# Altium footprint library CHIPS.PcbLib: 14 footprints
Each footprint in its own frame and in the unit in brackets; x right, y up, seen from the top. Pads: shape width x height; smd on the part's side, far side on the other; paste and mask are expansions set on the pad; w line width, h text height; cw(c..) or ccw(c..) is an arc to the next point about the centre after c.
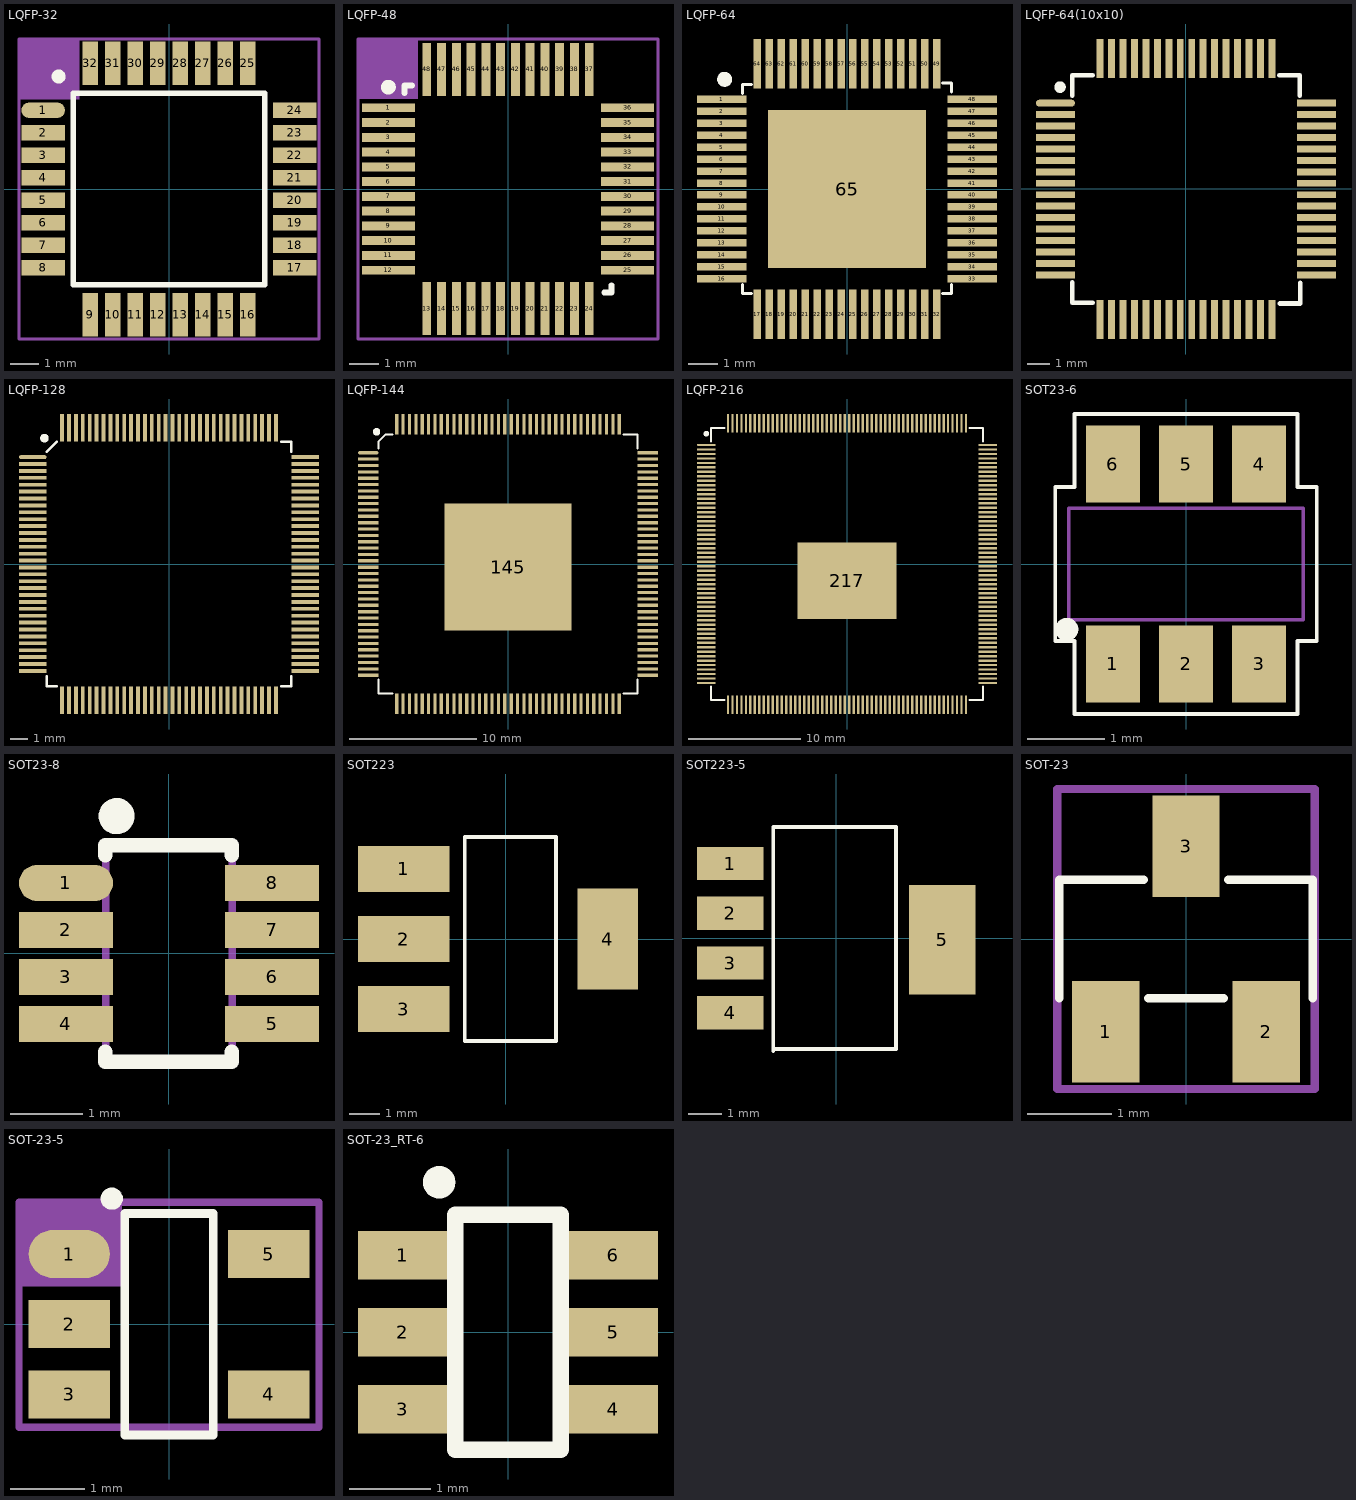
[diagram p0: the footprints below, top view; thin cyan lines are the x and y axes]

## LQFP-32 [mm] "TQFP, 32-Leads, Body 9,0x9,0mm (max), Pitch 0,80mm, IPC Medium Density"
height 1.6
pads (32):
  oval 1.55x0.55 smd paste-0.06 mask+0.05: 1(-4.475,2.8)
  rect 1.55x0.55 smd paste-0.06 mask+0.05: 2(-4.475,2) 3(-4.475,1.2) 4(-4.475,0.4) 5(-4.475,-0.4) 6(-4.475,-1.2) 7(-4.475,-2) 8(-4.475,-2.8) 17(4.475,-2.8) 18(4.475,-2) 19(4.475,-1.2) 20(4.475,-0.4) 21(4.475,0.4) 22(4.475,1.2) 23(4.475,2) 24(4.475,2.8)
  rect 0.55x1.55 smd paste-0.06 mask+0.05: 9(-2.8,-4.475) 10(-2,-4.475) 11(-1.2,-4.475) 12(-0.4,-4.475) 13(0.4,-4.475) 14(1.2,-4.475) 15(2,-4.475) 16(2.8,-4.475) 25(2.8,4.475) 26(2,4.475) 27(1.2,4.475) 28(0.4,4.475) 29(-0.4,4.475) 30(-1.2,4.475) 31(-2,4.475) 32(-2.8,4.475)
Top Overlay:
  circle w0.25: c-3.925,4 r0.125
  lines w0.2: -3.4,-3.4 -3.4,3.4 3.4,3.4 3.4,-3.4 -3.4,-3.4
Mechanical 29:
  rectangle: -5.334,3.175 -3.175,5.334
  lines w0.1: -5.334,-5.334 5.334,-5.334 5.334,5.334 -5.334,5.334 -5.334,-5.334
  text ".Designator" at -2.921,-0.508 h1.52
3D body "User Library-sot358-1.STEP": height 1.43, standoff -0.03, extent -4.55,-4.539 4.529,4.539

## LQFP-48 [mm] "TSQFP, 48-Leads, Body 9,3x9,3mm (max), Pitch 0,50mm, IPC Medium Density"
height 1.4
pads (48):
  rect 1.8x0.3 smd paste-0.04 mask+0.05: 1(-4.05,2.75) 2(-4.05,2.25) 3(-4.05,1.75) 4(-4.05,1.25) 5(-4.05,0.75) 6(-4.05,0.25) 7(-4.05,-0.25) 8(-4.05,-0.75) 9(-4.05,-1.25) 10(-4.05,-1.75) 11(-4.05,-2.25) 12(-4.05,-2.75) 25(4.05,-2.75) 26(4.05,-2.25) 27(4.05,-1.75) 28(4.05,-1.25) 29(4.05,-0.75) 30(4.05,-0.25) 31(4.05,0.25) 32(4.05,0.75) 33(4.05,1.25) 34(4.05,1.75) 35(4.05,2.25) 36(4.05,2.75)
  rect 0.3x1.8 smd paste-0.04 mask+0.05: 13(-2.75,-4.05) 14(-2.25,-4.05) 15(-1.75,-4.05) 16(-1.25,-4.05) 17(-0.75,-4.05) 18(-0.25,-4.05) 19(0.25,-4.05) 20(0.75,-4.05) 21(1.25,-4.05) 22(1.75,-4.05) 23(2.25,-4.05) 24(2.75,-4.05) 37(2.75,4.05) 38(2.25,4.05) 39(1.75,4.05) 40(1.25,4.05) 41(0.75,4.05) 42(0.25,4.05) 43(-0.25,4.05) 44(-0.75,4.05) 45(-1.25,4.05) 46(-1.75,4.05) 47(-2.25,4.05) 48(-2.75,4.05)
Top Overlay:
  circle w0.25: c-4.05,3.45 r0.125
  lines w0.2: -3.5,3.25 -3.5,3.5 -3.25,3.5 ; 3.26,-3.5 3.5,-3.5 3.5,-3.26
Mechanical 29:
  rectangle: -5.08,3.048 -3.048,5.08
  lines w0.1: -5.08,-5.08 5.08,-5.08 5.08,5.08 -4.064,5.08 -5.08,5.08 -5.08,-5.08
  text ".Designator" at -2.413,-0.635 h1.52
3D body "SW3dPS-LQFP48.STEP": height 1.5, standoff 0, extent -4.5,-4.5 4.5,4.5

## LQFP-64 [mm] "TSQFP, 64-Leads, Body 9,0x9,0mm (max), Pitch 0,40mm, IPC Medium Density"
height 1.2
pads (65):
  rect 1.65x0.25 smd paste-0.05 mask+0.02: 1(-4.2,3) 2(-4.2,2.6) 3(-4.2,2.2) 4(-4.2,1.8) 5(-4.2,1.4) 6(-4.2,1) 7(-4.2,0.6) 8(-4.2,0.2) 9(-4.2,-0.2) 10(-4.2,-0.6) 11(-4.2,-1) 12(-4.2,-1.4) 13(-4.2,-1.8) 14(-4.2,-2.2) 15(-4.2,-2.6) 16(-4.2,-3) 33(4.2,-3) 34(4.2,-2.6) 35(4.2,-2.2) 36(4.2,-1.8) 37(4.2,-1.4) 38(4.2,-1) 39(4.2,-0.6) 40(4.2,-0.2) 41(4.2,0.2) 42(4.2,0.6) 43(4.2,1) 44(4.2,1.4) 45(4.2,1.8) 46(4.2,2.2) 47(4.2,2.6) 48(4.2,3)
  rect 0.25x1.65 smd paste-0.05 mask+0.02: 17(-3,-4.2) 18(-2.6,-4.2) 19(-2.2,-4.2) 20(-1.8,-4.2) 21(-1.4,-4.2) 22(-1,-4.2) 23(-0.6,-4.2) 24(-0.2,-4.2) 25(0.2,-4.2) 26(0.6,-4.2) 27(1,-4.2) 28(1.4,-4.2) 29(1.8,-4.2) 30(2.2,-4.2) 31(2.6,-4.2) 32(3,-4.2) 49(3,4.2) 50(2.6,4.2) 51(2.2,4.2) 52(1.8,4.2) 53(1.4,4.2) 54(1,4.2) 55(0.6,4.2) 56(0.2,4.2) 57(-0.2,4.2) 58(-0.6,4.2) 59(-1,4.2) 60(-1.4,4.2) 61(-1.8,4.2) 62(-2.2,4.2) 63(-2.6,4.2) 64(-3,4.2)
  rect 5.3x5.3 smd paste-1: 65(0,0)
Top Overlay:
  circle w0.25: c-4.1,3.675 r0.125
  lines w0.1: -3.5,-3.2 -3.5,-3.5 -3.2,-3.5 ; -3.5,3.2 -3.5,3.5 -3.2,3.5 ; 3.2,-3.5 3.5,-3.5 3.5,-3.2 ; 3.2,3.55 3.5,3.55 3.5,3.25
3D body "User Library-IPC QFP-full.STEP": height 1.75, standoff 0, extent -4.51,-4.421 4.51,4.6

## LQFP-64(10x10) [mm]
height 1.6
pads (64):
  oval 1.7x0.3 smd paste-0.04 mask+0.03: 1(-5.7,3.75)
  rect 1.7x0.3 smd paste-0.04 mask+0.03: 2(-5.7,3.25) 3(-5.7,2.75) 4(-5.7,2.25) 5(-5.7,1.75) 6(-5.7,1.25) 7(-5.7,0.75) 8(-5.7,0.25) 9(-5.7,-0.25) 10(-5.7,-0.75) 11(-5.7,-1.25) 12(-5.7,-1.75) 13(-5.7,-2.25) 14(-5.7,-2.75) 15(-5.7,-3.25) 16(-5.7,-3.75) 33(5.7,-3.75) 34(5.7,-3.25) 35(5.7,-2.75) 36(5.7,-2.25) 37(5.7,-1.75) 38(5.7,-1.25) 39(5.7,-0.75) 40(5.7,-0.25) 41(5.7,0.25) 42(5.7,0.75) 43(5.7,1.25) 44(5.7,1.75) 45(5.7,2.25) 46(5.7,2.75) 47(5.7,3.25) 48(5.7,3.75)
  rect 0.3x1.7 smd paste-0.04 mask+0.03: 17(-3.75,-5.7) 18(-3.25,-5.7) 19(-2.75,-5.7) 20(-2.25,-5.7) 21(-1.75,-5.7) 22(-1.25,-5.7) 23(-0.75,-5.7) 24(-0.25,-5.7) 25(0.25,-5.7) 26(0.75,-5.7) 27(1.25,-5.7) 28(1.75,-5.7) 29(2.25,-5.7) 30(2.75,-5.7) 31(3.25,-5.7) 32(3.75,-5.7) 49(3.75,5.7) 50(3.25,5.7) 51(2.75,5.7) 52(2.25,5.7) 53(1.75,5.7) 54(1.25,5.7) 55(0.75,5.7) 56(0.25,5.7) 57(-0.25,5.7) 58(-0.75,5.7) 59(-1.25,5.7) 60(-1.75,5.7) 61(-2.25,5.7) 62(-2.75,5.7) 63(-3.25,5.7) 64(-3.75,5.7)
Top Overlay:
  circle w0.25: c-5.5,4.45 r0.125
  lines w0.2: -4.975,-4.075 -4.975,-4.975 -4.075,-4.975 ; -4.975,4.075 -4.975,4.975 -4.075,4.975 ; 4.075,4.975 4.975,4.975 4.975,4.075 ; 4.09,-5 4.99,-5 4.99,-4.1
3D body "User Library-lqpf64.step": height 1.47, standoff -0.01, extent -6,-6 6,6

## LQFP-128 [mm] "TSQFP, 128-Leads, Body 15,9x15,9mm (max), Pitch 0,40mm, IPC Medium Density"
height 1.6
pads (128):
  oval 1.6x0.22 smd paste-0.04 mask+0.02: 1(-7.9,6.2)
  rect 1.6x0.22 smd paste-0.04 mask+0.02: 2(-7.9,5.8) 3(-7.9,5.4) 4(-7.9,5) 5(-7.9,4.6) 6(-7.9,4.2) 7(-7.9,3.8) 8(-7.9,3.4) 9(-7.9,3) 10(-7.9,2.6) 11(-7.9,2.2) 12(-7.9,1.8) 13(-7.9,1.4) 14(-7.9,1) 15(-7.9,0.6) 16(-7.9,0.2) 17(-7.9,-0.2) 18(-7.9,-0.6) 19(-7.9,-1) 20(-7.9,-1.4) 21(-7.9,-1.8) 22(-7.9,-2.2) 23(-7.9,-2.6) 24(-7.9,-3) 25(-7.9,-3.4) 26(-7.9,-3.8) 27(-7.9,-4.2) 28(-7.9,-4.6) 29(-7.9,-5) 30(-7.9,-5.4) 31(-7.9,-5.8) 32(-7.9,-6.2) 65(7.9,-6.2) 66(7.9,-5.8) 67(7.9,-5.4) 68(7.9,-5) 69(7.9,-4.6) 70(7.9,-4.2) 71(7.9,-3.8) 72(7.9,-3.4) 73(7.9,-3) 74(7.9,-2.6) 75(7.9,-2.2) 76(7.9,-1.8) 77(7.9,-1.4) 78(7.9,-1) 79(7.9,-0.6) 80(7.9,-0.2) 81(7.9,0.2) 82(7.9,0.6) 83(7.9,1) 84(7.9,1.4) 85(7.9,1.8) 86(7.9,2.2) 87(7.9,2.6) 88(7.9,3) 89(7.9,3.4) 90(7.9,3.8) 91(7.9,4.2) 92(7.9,4.6) 93(7.9,5) 94(7.9,5.4) 95(7.9,5.8) 96(7.9,6.2)
  rect 0.22x1.6 smd paste-0.04 mask+0.02: 33(-6.2,-7.9) 34(-5.8,-7.9) 35(-5.4,-7.9) 36(-5,-7.9) 37(-4.6,-7.9) 38(-4.2,-7.9) 39(-3.8,-7.9) 40(-3.4,-7.9) 41(-3,-7.9) 42(-2.6,-7.9) 43(-2.2,-7.9) 44(-1.8,-7.9) 45(-1.4,-7.9) 46(-1,-7.9) 47(-0.6,-7.9) 48(-0.2,-7.9) 49(0.2,-7.9) 50(0.6,-7.9) 51(1,-7.9) 52(1.4,-7.9) 53(1.8,-7.9) 54(2.2,-7.9) 55(2.6,-7.9) 56(3,-7.9) 57(3.4,-7.9) 58(3.8,-7.9) 59(4.2,-7.9) 60(4.6,-7.9) 61(5,-7.9) 62(5.4,-7.9) 63(5.8,-7.9) 64(6.2,-7.9) 97(6.2,7.9) 98(5.8,7.9) 99(5.4,7.9) 100(5,7.9) 101(4.6,7.9) 102(4.2,7.9) 103(3.8,7.9) 104(3.4,7.9) 105(3,7.9) 106(2.6,7.9) 107(2.2,7.9) 108(1.8,7.9) 109(1.4,7.9) 110(1,7.9) 111(0.6,7.9) 112(0.2,7.9) 113(-0.2,7.9) 114(-0.6,7.9) 115(-1,7.9) 116(-1.4,7.9) 117(-1.8,7.9) 118(-2.2,7.9) 119(-2.6,7.9) 120(-3,7.9) 121(-3.4,7.9) 122(-3.8,7.9) 123(-4.2,7.9) 124(-4.6,7.9) 125(-5,7.9) 126(-5.4,7.9) 127(-5.8,7.9) 128(-6.2,7.9)
Top Overlay:
  circle w0.25: c-7.225,7.3 r0.125
  lines w0.15: -7.1,-6.5 -7.1,-7.1 -6.5,-7.1 ; -7.1,6.5 -6.5,7.1 ; 6.5,-7.1 7.1,-7.1 7.1,-6.5 ; 6.5,7.1 7.1,7.1 7.1,6.5
3D body "User Library-LQFP-128.step": height 1.35, standoff 0, extent -8,-8 8,8

## LQFP-144 [mm]
pads (145):
  oval 1.6x0.25 smd paste-0.04 mask+0.02: 1(-11,8.75)
  rect 1.6x0.25 smd paste-0.04 mask+0.02: 2(-11,8.25) 3(-11,7.75) 4(-11,7.25) 5(-11,6.75) 6(-11,6.25) 7(-11,5.75) 8(-11,5.25) 9(-11,4.75) 10(-11,4.25) 11(-11,3.75) 12(-11,3.25) 13(-11,2.75) 14(-11,2.25) 15(-11,1.75) 16(-11,1.25) 17(-11,0.75) 18(-11,0.25) 19(-11,-0.25) 20(-11,-0.75) 21(-11,-1.25) 22(-11,-1.75) 23(-11,-2.25) 24(-11,-2.75) 25(-11,-3.25) 26(-11,-3.75) 27(-11,-4.25) 28(-11,-4.75) 29(-11,-5.25) 30(-11,-5.75) 31(-11,-6.25) 32(-11,-6.75) 33(-11,-7.25) 34(-11,-7.75) 35(-11,-8.25) 36(-11,-8.75) 73(11,-8.75) 74(11,-8.25) 75(11,-7.75) 76(11,-7.25) 77(11,-6.75) 78(11,-6.25) 79(11,-5.75) 80(11,-5.25) 81(11,-4.75) 82(11,-4.25) 83(11,-3.75) 84(11,-3.25) 85(11,-2.75) 86(11,-2.25) 87(11,-1.75) 88(11,-1.25) 89(11,-0.75) 90(11,-0.25) 91(11,0.25) 92(11,0.75) 93(11,1.25) 94(11,1.75) 95(11,2.25) 96(11,2.75) 97(11,3.25) 98(11,3.75) 99(11,4.25) 100(11,4.75) 101(11,5.25) 102(11,5.75) 103(11,6.25) 104(11,6.75) 105(11,7.25) 106(11,7.75) 107(11,8.25) 108(11,8.75)
  rect 0.25x1.6 smd paste-0.04 mask+0.02: 37(-8.75,-11) 38(-8.25,-11) 39(-7.75,-11) 40(-7.25,-11) 41(-6.75,-11) 42(-6.25,-11) 43(-5.75,-11) 44(-5.25,-11) 45(-4.75,-11) 46(-4.25,-11) 47(-3.75,-11) 48(-3.25,-11) 49(-2.75,-11) 50(-2.25,-11) 51(-1.75,-11) 52(-1.25,-11) 53(-0.75,-11) 54(-0.25,-11) 55(0.25,-11) 56(0.75,-11) 57(1.25,-11) 58(1.75,-11) 59(2.25,-11) 60(2.75,-11) 61(3.25,-11) 62(3.75,-11) 63(4.25,-11) 64(4.75,-11) 65(5.25,-11) 66(5.75,-11) 67(6.25,-11) 68(6.75,-11) 69(7.25,-11) 70(7.75,-11) 71(8.25,-11) 72(8.75,-11) 109(8.75,11) 110(8.25,11) 111(7.75,11) 112(7.25,11) 113(6.75,11) 114(6.25,11) 115(5.75,11) 116(5.25,11) 117(4.75,11) 118(4.25,11) 119(3.75,11) 120(3.25,11) 121(2.75,11) 122(2.25,11) 123(1.75,11) 124(1.25,11) 125(0.75,11) 126(0.25,11) 127(-0.25,11) 128(-0.75,11) 129(-1.25,11) 130(-1.75,11) 131(-2.25,11) 132(-2.75,11) 133(-3.25,11) 134(-3.75,11) 135(-4.25,11) 136(-4.75,11) 137(-5.25,11) 138(-5.75,11) 139(-6.25,11) 140(-6.75,11) 141(-7.25,11) 142(-7.75,11) 143(-8.25,11) 144(-8.75,11)
  rect 10x10 smd paste-2.5: 145(0,-0.25)
Top Overlay:
  circle w0.3: c-10.343,10.4 r0.143
  lines w0.15: -10.2,-9.1 -10.2,-10.2 -9.1,-10.2 ; -10.2,9.1 -10.2,9.6 -9.6,10.2 -9.1,10.2 ; 9.1,-10.2 10.2,-10.2 10.2,-9.1 ; 9.1,10.2 10.2,10.2 10.2,9.1
3D body "User Library-LQFP144.STEP": height 1.6, standoff 0, extent -11,-11 11,11

## LQFP-216 [mm]
height 1.6
pads (217):
  oval 1.65x0.2 smd paste-0.04 mask+0.02: 1(-12.525,10.6)
  rect 1.65x0.2 smd paste-0.04 mask+0.02: 2(-12.525,10.2) 3(-12.525,9.8) 4(-12.525,9.4) 5(-12.525,9) 6(-12.525,8.6) 7(-12.525,8.2) 8(-12.525,7.8) 9(-12.525,7.4) 10(-12.525,7) 11(-12.525,6.6) 12(-12.525,6.2) 13(-12.525,5.8) 14(-12.525,5.4) 15(-12.525,5) 16(-12.525,4.6) 17(-12.525,4.2) 18(-12.525,3.8) 19(-12.525,3.4) 20(-12.525,3) 21(-12.525,2.6) 22(-12.525,2.2) 23(-12.525,1.8) 24(-12.525,1.4) 25(-12.525,1) 26(-12.525,0.6) 27(-12.525,0.2) 28(-12.525,-0.2) 29(-12.525,-0.6) 30(-12.525,-1) 31(-12.525,-1.4) 32(-12.525,-1.8) 33(-12.525,-2.2) 34(-12.525,-2.6) 35(-12.525,-3) 36(-12.525,-3.4) 37(-12.525,-3.8) 38(-12.525,-4.2) 39(-12.525,-4.6) 40(-12.525,-5) 41(-12.525,-5.4) 42(-12.525,-5.8) 43(-12.525,-6.2) 44(-12.525,-6.6) 45(-12.525,-7) 46(-12.525,-7.4) 47(-12.525,-7.8) 48(-12.525,-8.2) 49(-12.525,-8.6) 50(-12.525,-9) 51(-12.525,-9.4) 52(-12.525,-9.8) 53(-12.525,-10.2) 54(-12.525,-10.6) 109(12.525,-10.6) 110(12.525,-10.2) 111(12.525,-9.8) 112(12.525,-9.4) 113(12.525,-9) 114(12.525,-8.6) 115(12.525,-8.2) 116(12.525,-7.8) 117(12.525,-7.4) 118(12.525,-7) 119(12.525,-6.6) 120(12.525,-6.2) 121(12.525,-5.8) 122(12.525,-5.4) 123(12.525,-5) 124(12.525,-4.6) 125(12.525,-4.2) 126(12.525,-3.8) 127(12.525,-3.4) 128(12.525,-3) 129(12.525,-2.6) 130(12.525,-2.2) 131(12.525,-1.8) 132(12.525,-1.4) 133(12.525,-1) 134(12.525,-0.6) 135(12.525,-0.2) 136(12.525,0.2) 137(12.525,0.6) 138(12.525,1) 139(12.525,1.4) 140(12.525,1.8) 141(12.525,2.2) 142(12.525,2.6) 143(12.525,3) 144(12.525,3.4) 145(12.525,3.8) 146(12.525,4.2) 147(12.525,4.6) 148(12.525,5) 149(12.525,5.4) 150(12.525,5.8) 151(12.525,6.2) 152(12.525,6.6) 153(12.525,7) 154(12.525,7.4) 155(12.525,7.8) 156(12.525,8.2) 157(12.525,8.6) 158(12.525,9) 159(12.525,9.4) 160(12.525,9.8) 161(12.525,10.2) 162(12.525,10.6)
  rect 0.2x1.65 smd paste-0.04 mask+0.02: 55(-10.6,-12.525) 56(-10.2,-12.525) 57(-9.8,-12.525) 58(-9.4,-12.525) 59(-9,-12.525) 60(-8.6,-12.525) 61(-8.2,-12.525) 62(-7.8,-12.525) 63(-7.4,-12.525) 64(-7,-12.525) 65(-6.6,-12.525) 66(-6.2,-12.525) 67(-5.8,-12.525) 68(-5.4,-12.525) 69(-5,-12.525) 70(-4.6,-12.525) 71(-4.2,-12.525) 72(-3.8,-12.525) 73(-3.4,-12.525) 74(-3,-12.525) 75(-2.6,-12.525) 76(-2.2,-12.525) 77(-1.8,-12.525) 78(-1.4,-12.525) 79(-1,-12.525) 80(-0.6,-12.525) 81(-0.2,-12.525) 82(0.2,-12.525) 83(0.6,-12.525) 84(1,-12.525) 85(1.4,-12.525) 86(1.8,-12.525) 87(2.2,-12.525) 88(2.6,-12.525) 89(3,-12.525) 90(3.4,-12.525) 91(3.8,-12.525) 92(4.2,-12.525) 93(4.6,-12.525) 94(5,-12.525) 95(5.4,-12.525) 96(5.8,-12.525) 97(6.2,-12.525) 98(6.6,-12.525) 99(7,-12.525) 100(7.4,-12.525) 101(7.8,-12.525) 102(8.2,-12.525) 103(8.6,-12.525) 104(9,-12.525) 105(9.4,-12.525) 106(9.8,-12.525) 107(10.2,-12.525) 108(10.6,-12.525) 163(10.6,12.525) 164(10.2,12.525) 165(9.8,12.525) 166(9.4,12.525) 167(9,12.525) 168(8.6,12.525) 169(8.2,12.525) 170(7.8,12.525) 171(7.4,12.525) 172(7,12.525) 173(6.6,12.525) 174(6.2,12.525) 175(5.8,12.525) 176(5.4,12.525) 177(5,12.525) 178(4.6,12.525) 179(4.2,12.525) 180(3.8,12.525) 181(3.4,12.525) 182(3,12.525) 183(2.6,12.525) 184(2.2,12.525) 185(1.8,12.525) 186(1.4,12.525) 187(1,12.525) 188(0.6,12.525) 189(0.2,12.525) 190(-0.2,12.525) 191(-0.6,12.525) 192(-1,12.525) 193(-1.4,12.525) 194(-1.8,12.525) 195(-2.2,12.525) 196(-2.6,12.525) 197(-3,12.525) 198(-3.4,12.525) 199(-3.8,12.525) 200(-4.2,12.525) 201(-4.6,12.525) 202(-5,12.525) 203(-5.4,12.525) 204(-5.8,12.525) 205(-6.2,12.525) 206(-6.6,12.525) 207(-7,12.525) 208(-7.4,12.525) 209(-7.8,12.525) 210(-8.2,12.525) 211(-8.6,12.525) 212(-9,12.525) 213(-9.4,12.525) 214(-9.8,12.525) 215(-10.2,12.525) 216(-10.6,12.525)
  rect 8.8x6.8 smd paste-1: 217(0,-1.5)
Top Overlay:
  circle w0.25: c-12.525,11.6 r0.125
  lines w0.2: -12.1,-10.9 -12.1,-12.1 -10.9,-12.1 ; -12.1,10.9 -12.1,12.1 -10.9,12.1 ; 10.9,-12.1 12.1,-12.1 12.1,-10.9 ; 10.9,12.1 12.1,12.1 12.1,10.9
3D body: height 1.6, standoff 0.25, extent -12,-12 12,12

## SOT23-6 [mm]
pads (6):
  rect 0.7x1 smd paste-0.08 mask+0.05: 1(-0.95,-1.3) 2(0,-1.3) 3(0.95,-1.3) 4(0.95,1.3) 5(0,1.3) 6(-0.95,1.3)
Top Overlay:
  circle w0.15: c-1.55,-0.85 r0.075
  lines w0.05: -1.7,-1 -1.7,1 -1.45,1 -1.45,1.95 1.45,1.95 1.45,1 1.7,1 1.7,-1 1.45,-1 1.45,-1.95 -1.45,-1.95 -1.45,-1 -1.7,-1
Mechanical 13:
  lines w0.05: -1.525,-0.725 1.525,-0.725 1.525,0.725 -1.525,0.725 -1.525,-0.725
3D body "User Library-SOT-23-6.step": height 1.09, standoff 0, extent -1.4,-1.213 1.394,1.213

## SOT23-8 [mm]
height 1.45
pads (8):
  oval 1.3x0.5 smd paste-0.05 mask+0.04: 1(-1.425,0.975)
  rect 1.3x0.5 smd paste-0.05 mask+0.04: 2(-1.425,0.325) 3(-1.425,-0.325) 4(-1.425,-0.975) 5(1.425,-0.975) 6(1.425,-0.325) 7(1.425,0.325) 8(1.425,0.975)
Top Overlay:
  circle w0.25: c-0.725,1.9 r0.125
  lines w0.2: -0.88,-1.36 -0.88,-1.5 0.87,-1.5 0.87,-1.36 ; -0.88,1.36 -0.88,1.5 0.87,1.5 0.87,1.36
Mechanical 13:
  lines w0.1: -0.875,-1.5 0.875,-1.5 0.875,1.5 -0.875,1.5 -0.875,-1.5
3D body "User Library-sot238.step": height 1.2, standoff 0, extent -1.4,-1.49 1.4,1.45

## SOT223 [mm] "SOT223, 4-Leads, Body 6,7x7,3mm (max), Pitch 2,30mm, IPC Medium Density"
height 1.8
pads (4):
  rect 3x1.5 smd paste-0.15: 1(-3.35,2.3) 2(-3.35,0) 3(-3.35,-2.3)
  rect 2x3.3 smd paste-0.2: 4(3.35,0)
Top Overlay:
  lines w0.12: -1.35,-3.35 -1.35,3.35 1.65,3.35 1.65,-3.35 -1.35,-3.35
3D body "User Library-SOT-223-2.STEP": height 1.85, standoff -0.05, extent -3.422,-3.39 3.782,3.31

## SOT223-5 [mm] "SOT223, 4-Leads, Body 6,7x7,3mm (max), Pitch 2,30mm, IPC Medium Density"
height 1.8
pads (5):
  rect 2x1 smd paste-0.15: 1(-3.2,2.25) 2(-3.2,0.75) 3(-3.2,-0.75) 4(-3.2,-2.25)
  rect 2x3.3 smd paste-0.2: 5(3.2,-0.05)
Top Overlay:
  lines w0.12: -1.9,-3.4 -1.9,3.3 ; -1.9,-3.35 1.8,-3.35 1.8,3.35 -1.9,3.35
3D body "User Library-User Library-SOT-223-5.step": height 1.64, standoff -0.01, extent -3.5,-3.25 3.5,3.25

## SOT-23 [mm]
pads (3):
  rect 0.8x1.2 smd paste-0.08 mask+0.05: 1(-0.95,-1.1) 2(0.95,-1.1) 3(0,1.1)
Top Overlay:
  lines w0.1: -1.5,-0.7 -1.5,0.7 -0.5,0.7 ; -0.45,-0.7 0.45,-0.7 ; 0.5,0.7 1.5,0.7 1.5,-0.7
Mechanical 29:
  lines w0.1: -1.524,-1.778 -1.524,1.778 1.524,1.778 1.524,-1.778 -1.524,-1.778
  text ".Designator" at 0.508,-1.524 h1
3D body "SW3dPS-3-lead sot23-3.STEP": height 1, standoff -0.02, extent -1.46,-1.376 1.46,1.1

## SOT-23-5 [mm]
pads (5):
  oval 1.1x0.65 smd paste-0.08: 1(-1.35,0.95)
  rect 1.1x0.65 smd paste-0.08: 2(-1.35,0) 3(-1.35,-0.95) 4(1.35,-0.95) 5(1.35,0.95)
Top Overlay:
  circle w0.15: c-0.775,1.7 r0.075
  lines w0.12: -0.6,-1.5 -0.6,1.5 0.6,1.5 0.6,-1.5 -0.6,-1.5
Mechanical 29:
  rectangle: -2.032,0.508 -0.635,1.651
  lines w0.1: -2.032,-1.397 -2.032,1.651 2.032,1.651 2.032,-1.397 -2.032,-1.397
  text ".Designator" at -1.778,-0.889 h1
3D body "User Library-SOT23-5-1.step": height 1.3, standoff 0, extent -1.5,-1.5 1.5,1.5

## SOT-23_RT-6 [mm]
pads (6):
  rect 1.1x0.6 smd paste-0.05: 1(-1.3,0.95) 2(-1.3,0) 3(-1.3,-0.95) 4(1.3,-0.95) 5(1.3,0) 6(1.3,0.95)
Top Overlay:
  circle w0.2: c-0.85,1.85 r0.1
  lines w0.2: -0.65,-1.45 0.65,-1.45 0.65,1.45 -0.65,1.45 -0.65,-1.45
3D body "SW3dPS-SOT-23-6.STEP": height 1.09, standoff 0, extent -1.226,-1.397 1.2,1.397